# Altium schematic symbol library URB_LD-20WR3.SchLib: 1 symbol
Pins are listed as number, name and electrical type; pins without a type are passive.

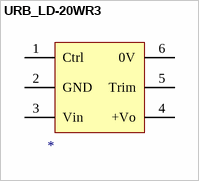
[diagram p0: symbol URB_LD-20WR3]

## URB_LD-20WR3
designator ?
pins: 1 Ctrl, 2 GND, 3 Vin, 4 +Vo, 5 Trim, 6 0V